# Altium footprint library PHONEJACK_STERO_SW1200X1400.PcbLib: 1 footprints
Each footprint in its own frame and in the unit in brackets; x right, y up, seen from the top. Pads: shape width x height; smd on the part's side, far side on the other; paste and mask are expansions set on the pad; w line width, h text height; cw(c..) or ccw(c..) is an arc to the next point about the centre after c.
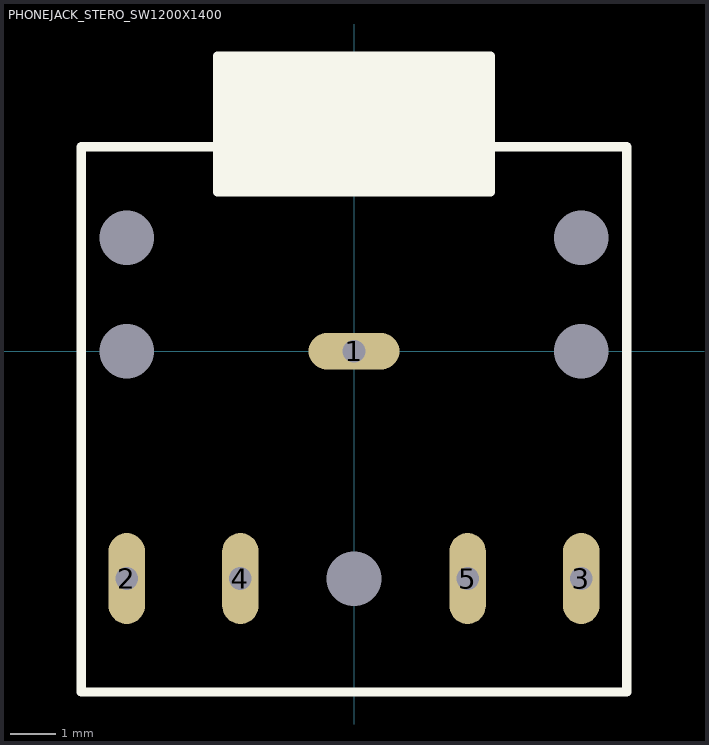
[diagram p0: the footprint, top view; thin cyan lines are the x and y axes]

## PHONEJACK_STERO_SW1200X1400 [mm] "3.5mm AUDIO JACK STEREO"
height 5
pads (10):
  oval 2x0.8 hole 0.5: 1(0,0)
  oval 0.8x2 hole 0.5: 2(-5,-5) 3(5,-5) 4(-2.5,-5) 5(2.5,-5)
  round 0 hole 1.2: ""(-5,0) ""(-5,2.5) ""(0,-5) ""(5,0) ""(5,2.5)
Top Overlay:
  rectangle: -3,3.4 3,6.5
  lines w0.2: -3,3.5 -3,6.5 3,6.5 3,3.5 ; -6,-7.5 -6,4.5 6,4.5 6,-7.5 -6,-7.5
Mechanical 1:
  lines w0.5: -5,-5.6 -5,-4.4 ; -2.5,-5.6 -2.5,-4.4 ; -0.6,0 0.6,0 ; 2.5,-5.6 2.5,-4.4 ; 5,-5.6 5,-4.4